# EAGLE library part TCA0372 (library TCA0372_high_power_op)
High Power OPAMP 1.0A / +-15V driving coils, motors, speakers, ...
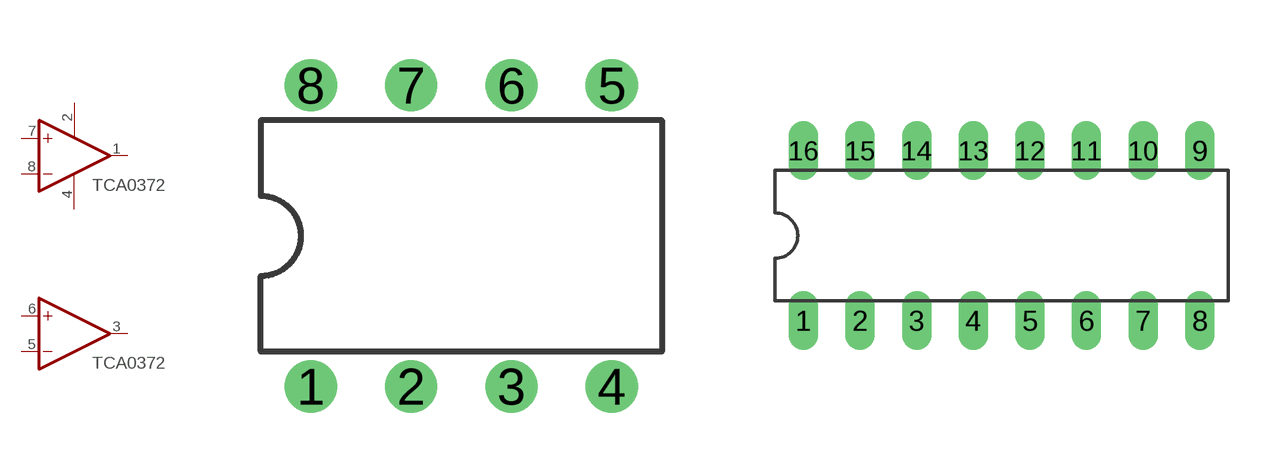
[diagram p0: symbol with the pads of DIL08; footprints DIL08, DIL16]

Designator prefix -; gates G$1=SINGLE_OP G$2=SINGLE_OP G$3=SUPPLY_OP_POS G$4=SUPPLY_OP_NEG

## TCA0372  [DIL08]
1  G$1:OUT  out
2  G$3:V+  pwr
3  G$2:OUT  out
4  G$4:V-  pwr
5  G$2:-IN  in
6  G$2:+IN  in
7  G$1:+IN  in
8  G$1:-IN  in

## TCA0372DIL16  [DIL16]
1  G$1:OUT  out
2  G$3:V+  pwr
3  G$2:OUT  out
4  G$4:V-  pwr
5  G$2:-IN  in
6  G$2:+IN  in
7  G$1:+IN  in
8  G$1:-IN  in
9  G$4:V-  pwr
10  G$4:V-  pwr
11  G$4:V-  pwr
12  G$4:V-  pwr
13  G$4:V-  pwr
14  G$4:V-  pwr
15  G$4:V-  pwr
16  G$4:V-  pwr

## TCA0372SO16  [SO16]
1  G$4:V-  pwr
3  G$1:OUT  out
4  G$3:V+  pwr
5  G$2:OUT  out
8  G$4:V-  pwr
9  G$4:V-  pwr
11  G$2:-IN  in
12  G$2:+IN  in
13  G$1:+IN  in
14  G$1:-IN  in
16  G$4:V-  pwr

## Footprint DIL08 (pad centres in mm)
Dual In Line Package
drill 0.813 pad 1.27: 1 -3.81,-3.81; 2 -1.27,-3.81; 3 1.27,-3.81; 4 3.81,-3.81; 5 3.81,3.81; 6 1.27,3.81; 7 -1.27,3.81; 8 -3.81,3.81

## Footprint DIL16 (pad centres in mm)
Dual In Line Package
drill 0.813 long: 1 -8.89,-3.81; 2 -6.35,-3.81; 3 -3.81,-3.81; 4 -1.27,-3.81; 5 1.27,-3.81; 6 3.81,-3.81; 7 6.35,-3.81; 8 8.89,-3.81; 9 8.89,3.81; 10 6.35,3.81; 11 3.81,3.81; 12 1.27,3.81; 13 -1.27,3.81; 14 -3.81,3.81; 15 -6.35,3.81; 16 -8.89,3.81

## Footprint SO16 (pad centres in mm)
Small Outline Package 16
smd 0.66 x 2.032: 1 -4.445,-3.073; 2 -3.175,-3.073; 3 -1.905,-3.073; 4 -0.635,-3.073; 5 0.635,-3.073; 6 1.905,-3.073; 7 3.175,-3.073; 8 4.445,-3.073; 9 4.445,3.073; 10 3.175,3.073; 11 1.905,3.073; 12 0.635,3.073; 13 -0.635,3.073; 14 -1.905,3.073; 15 -3.175,3.073; 16 -4.445,3.073